# Altium integrated library Aluminum.IntLib: 1 symbol
Pins are listed as number, name and electrical type; pins without a type are passive.

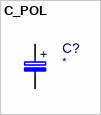
[diagram p0: symbol C_POL]

## C_POL
designator C?
ID: *; BUY_LINK: *; PRICE: *
footprint E_SIZE
pins: +, -